# Altium integrated library Capacitor - Aluminium Polymer.IntLib: 273 symbols (part 4 of 4)
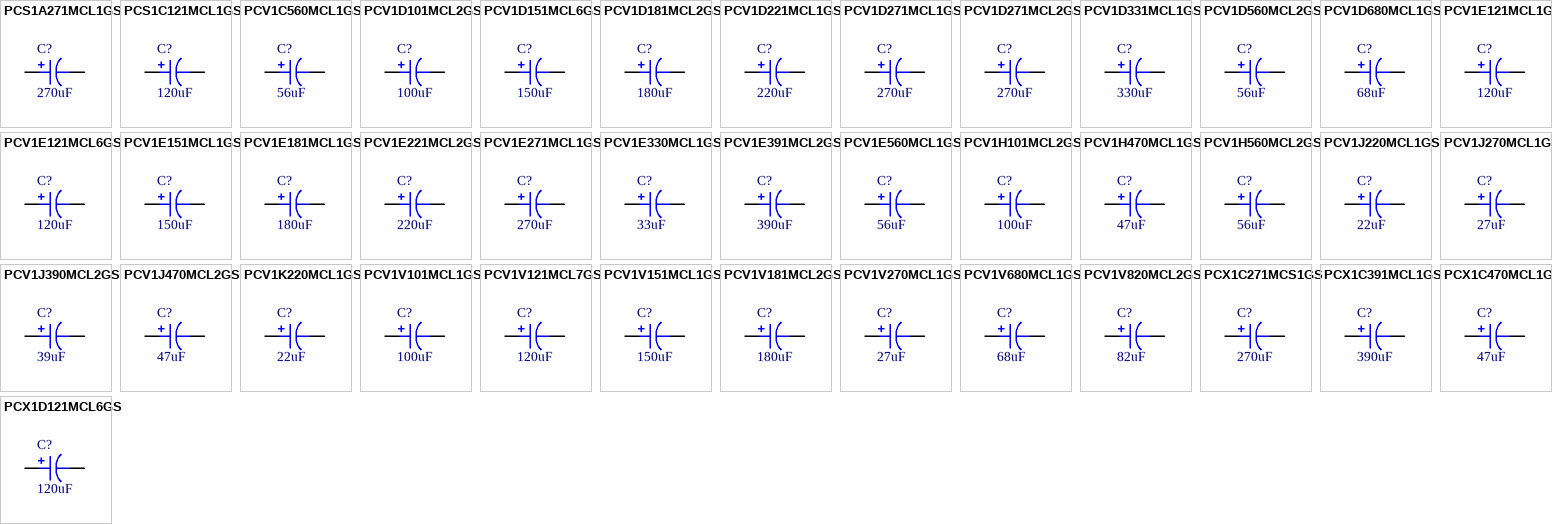
[diagram p9: symbols PCS1A271MCL1GS to PCX1D121MCL6GS]

## PCV1D181MCL2GS
designator C?, comment 180uF
CAP POLYMER 180UF 20% 20V SMD; Part Number: PCV1D181MCL2GS; Manufacturer: Nichicon; TemperatureRange: -55C ~ 105C; Ripple Current: 3.1A; Lifetime @ Temp: 3000 Hrs @ 105C; Value: 180uF; PartId: 7744; Supplier 1: Digi-Key; Supplier Part Number 1: 493-4533-2-ND; ComponentLink1Description: Datasheet; ComponentLink1URL: http://nichicon-us.com/english/products/pdfs/e-cv.pdf; ComponentLink2Description: Digi-Key listing; ComponentLink2URL: http://digikey.com/product-detail/en/PCV1D181MCL2GS/493-4533-2-ND/2786759; Tolerance: 20%; Voltage: 20V; Price: 2.2811; Type: -; Device Package: Radial, Can - SMD; Impedance: -
footprint CAP ALUM 10.3MM
pins: 1, 2

## PCV1D221MCL1GS
designator C?, comment 220uF
CAP POLYMER 220UF 20% 20V SMD; Part Number: PCV1D221MCL1GS; Manufacturer: Nichicon; TemperatureRange: -55C ~ 105C; Ripple Current: 2.3A; Lifetime @ Temp: 3000 Hrs @ 105C; Value: 220uF; PartId: 7643; Supplier 1: Digi-Key; Supplier Part Number 1: 493-4372-2-ND; ComponentLink1Description: Datasheet; ComponentLink1URL: http://nichicon-us.com/english/products/pdfs/e-cv.pdf; ComponentLink2Description: Digi-Key listing; ComponentLink2URL: http://digikey.com/product-detail/en/PCV1D221MCL1GS/493-4372-2-ND/2618758; Tolerance: 20%; Voltage: 20V; Price: 1.8816; Type: -; Device Package: Radial, Can - SMD; Impedance: -
footprint CAP ALUM 8.3MM
pins: 1, 2

## PCV1D271MCL1GS
designator C?, comment 270uF
CAP POLYMER 270UF 20% 20V SMD; Part Number: PCV1D271MCL1GS; Manufacturer: Nichicon; TemperatureRange: -55C ~ 105C; Ripple Current: 2.3A; Lifetime @ Temp: 3000 Hrs @ 105C; Value: 270uF; PartId: 7741; Supplier 1: Digi-Key; Supplier Part Number 1: 493-4374-2-ND; ComponentLink1Description: Datasheet; ComponentLink1URL: http://nichicon-us.com/english/products/pdfs/e-cv.pdf; ComponentLink2Description: Digi-Key listing; ComponentLink2URL: http://digikey.com/product-detail/en/PCV1D271MCL1GS/493-4374-2-ND/2618760; Tolerance: 20%; Voltage: 20V; Price: 2.1207; Type: -; Device Package: Radial, Can - SMD; Impedance: -
footprint CAP ALUM 10.3MM
pins: 1, 2

## PCV1D271MCL2GS
designator C?, comment 270uF
CAP POLYMER 270UF 20% 20V SMD; Part Number: PCV1D271MCL2GS; Manufacturer: Nichicon; TemperatureRange: -55C ~ 105C; Ripple Current: 4A; Lifetime @ Temp: 3000 Hrs @ 105C; Value: 270uF; PartId: 7649; Supplier 1: Digi-Key; Supplier Part Number 1: 493-4535-2-ND; ComponentLink1Description: Datasheet; ComponentLink1URL: http://nichicon-us.com/english/products/pdfs/e-cv.pdf; ComponentLink2Description: Digi-Key listing; ComponentLink2URL: http://digikey.com/product-detail/en/PCV1D271MCL2GS/493-4535-2-ND/2786761; Tolerance: 20%; Voltage: 20V; Price: 2.4592; Type: -; Device Package: Radial, Can - SMD; Impedance: -
footprint CAP ALUM 8.3MM
pins: 1, 2

## PCV1D331MCL1GS
designator C?, comment 330uF
CAP POLYMER 330UF 20% 20V SMD; Part Number: PCV1D331MCL1GS; Manufacturer: Nichicon; TemperatureRange: -55C ~ 105C; Ripple Current: 2.7A; Lifetime @ Temp: 3000 Hrs @ 105C; Value: 330uF; PartId: 7750; Supplier 1: Digi-Key; Supplier Part Number 1: 493-4375-2-ND; ComponentLink1Description: Datasheet; ComponentLink1URL: http://nichicon-us.com/english/products/pdfs/e-cv.pdf; ComponentLink2Description: Digi-Key listing; ComponentLink2URL: http://digikey.com/product-detail/en/PCV1D331MCL1GS/493-4375-2-ND/2618761; Tolerance: 20%; Voltage: 20V; Price: 2.5418; Type: -; Device Package: Radial, Can - SMD; Impedance: -
footprint CAP ALUM 10.3MM
pins: 1, 2

## PCV1D560MCL2GS
designator C?, comment 56uF
CAP POLYMER 56UF 20% 20V SMD; Part Number: PCV1D560MCL2GS; Manufacturer: Nichicon; TemperatureRange: -55C ~ 105C; Ripple Current: 1.3A; Lifetime @ Temp: 3000 Hrs @ 105C; Value: 56uF; PartId: 7542; Supplier 1: Digi-Key; Supplier Part Number 1: 493-4531-2-ND; ComponentLink1Description: Datasheet; ComponentLink1URL: http://nichicon-us.com/english/products/pdfs/e-cv.pdf; ComponentLink2Description: Digi-Key listing; ComponentLink2URL: http://digikey.com/product-detail/en/PCV1D560MCL2GS/493-4531-2-ND/2786757; Tolerance: 20%; Voltage: 20V; Price: 0.8778; Type: -; Device Package: Radial, Can - SMD; Impedance: -
footprint CAP ALUM 6.6MM
pins: 1, 2

## PCV1D680MCL1GS
designator C?, comment 68uF
CAP POLYMER 68UF 20% 20V SMD; Part Number: PCV1D680MCL1GS; Manufacturer: Nichicon; TemperatureRange: -55C ~ 105C; Ripple Current: 1.3A; Lifetime @ Temp: 3000 Hrs @ 105C; Value: 68uF; PartId: 7605; Supplier 1: Digi-Key; Supplier Part Number 1: 493-4370-2-ND; ComponentLink1Description: Datasheet; ComponentLink1URL: http://nichicon-us.com/english/products/pdfs/e-cv.pdf; ComponentLink2Description: Digi-Key listing; ComponentLink2URL: http://digikey.com/product-detail/en/PCV1D680MCL1GS/493-4370-2-ND/2618756; Tolerance: 20%; Voltage: 20V; Price: 1.0585; Type: -; Device Package: Radial, Can - SMD; Impedance: -
footprint CAP ALUM 8.3MM
pins: 1, 2

## PCV1E121MCL1GS
designator C?, comment 120uF
CAP POLYMER 120UF 20% 25V SMD; Part Number: PCV1E121MCL1GS; Manufacturer: Nichicon; TemperatureRange: -55C ~ 105C; Ripple Current: 1.8A; Lifetime @ Temp: 3000 Hrs @ 105C; Value: 120uF; PartId: 7717; Supplier 1: Digi-Key; Supplier Part Number 1: 493-4380-2-ND; ComponentLink1Description: Datasheet; ComponentLink1URL: http://nichicon-us.com/english/products/pdfs/e-cv.pdf; ComponentLink2Description: Digi-Key listing; ComponentLink2URL: http://digikey.com/product-detail/en/PCV1E121MCL1GS/493-4380-2-ND/2618766; Tolerance: 20%; Voltage: 25V; Price: 1.662; Type: -; Device Package: Radial, Can - SMD; Impedance: -
footprint CAP ALUM 10.3MM
pins: 1, 2

## PCV1E121MCL6GS
designator C?, comment 120uF
CAP POLYMER 120UF 20% 25V SMD; Part Number: PCV1E121MCL6GS; Manufacturer: Nichicon; TemperatureRange: -55C ~ 105C; Ripple Current: 1.9A; Lifetime @ Temp: 3000 Hrs @ 105C; Value: 120uF; PartId: 7636; Supplier 1: Digi-Key; Supplier Part Number 1: 493-4378-2-ND; ComponentLink1Description: Datasheet; ComponentLink1URL: http://nichicon-us.com/english/products/pdfs/e-cv.pdf; ComponentLink2Description: Digi-Key listing; ComponentLink2URL: http://digikey.com/product-detail/en/PCV1E121MCL6GS/493-4378-2-ND/2618764; Tolerance: 20%; Voltage: 25V; Price: 1.651; Type: -; Device Package: Radial, Can - SMD; Impedance: -
footprint CAP ALUM 8.3MM
pins: 1, 2

## PCV1E151MCL1GS
designator C?, comment 150uF
CAP POLYMER 150UF 20% 25V SMD; Part Number: PCV1E151MCL1GS; Manufacturer: Nichicon; TemperatureRange: -55C ~ 105C; Ripple Current: 2.2A; Lifetime @ Temp: 3000 Hrs @ 105C; Value: 150uF; PartId: 7640; Supplier 1: Digi-Key; Supplier Part Number 1: 493-4379-2-ND; ComponentLink1Description: Datasheet; ComponentLink1URL: http://nichicon-us.com/english/products/pdfs/e-cv.pdf; ComponentLink2Description: Digi-Key listing; ComponentLink2URL: http://digikey.com/product-detail/en/PCV1E151MCL1GS/493-4379-2-ND/2618765; Tolerance: 20%; Voltage: 25V; Price: 1.7099; Type: -; Device Package: Radial, Can - SMD; Impedance: -
footprint CAP ALUM 8.3MM
pins: 1, 2

## PCV1E181MCL1GS
designator C?, comment 180uF
CAP POLYMER 180UF 20% 25V SMD; Part Number: PCV1E181MCL1GS; Manufacturer: Nichicon; TemperatureRange: -55C ~ 105C; Ripple Current: 2.3A; Lifetime @ Temp: 3000 Hrs @ 105C; Value: 180uF; PartId: 7738; Supplier 1: Digi-Key; Supplier Part Number 1: 493-4381-2-ND; ComponentLink1Description: Datasheet; ComponentLink1URL: http://nichicon-us.com/english/products/pdfs/e-cv.pdf; ComponentLink2Description: Digi-Key listing; ComponentLink2URL: http://digikey.com/product-detail/en/PCV1E181MCL1GS/493-4381-2-ND/2618767; Tolerance: 20%; Voltage: 25V; Price: 1.91; Type: -; Device Package: Radial, Can - SMD; Impedance: -
footprint CAP ALUM 10.3MM
pins: 1, 2

## PCV1E221MCL2GS
designator C?, comment 220uF
CAP POLYMER 220UF 20% 25V SMD; Part Number: PCV1E221MCL2GS; Manufacturer: Nichicon; TemperatureRange: -55C ~ 105C; Ripple Current: 3.8A; Lifetime @ Temp: 3000 Hrs @ 105C; Value: 220uF; PartId: 7647; Supplier 1: Digi-Key; Supplier Part Number 1: 493-4542-2-ND; ComponentLink1Description: Datasheet; ComponentLink1URL: http://nichicon-us.com/english/products/pdfs/e-cv.pdf; ComponentLink2Description: Digi-Key listing; ComponentLink2URL: http://digikey.com/product-detail/en/PCV1E221MCL2GS/493-4542-2-ND/2786768; Tolerance: 20%; Voltage: 25V; Price: 2.406; Type: -; Device Package: Radial, Can - SMD; Impedance: -
footprint CAP ALUM 8.3MM
pins: 1, 2

## PCV1E271MCL1GS
designator C?, comment 270uF
CAP POLYMER 270UF 20% 25V SMD; Part Number: PCV1E271MCL1GS; Manufacturer: Nichicon; TemperatureRange: -55C ~ 105C; Ripple Current: 2.7A; Lifetime @ Temp: 3000 Hrs @ 105C; Value: 270uF; PartId: 7749; Supplier 1: Digi-Key; Supplier Part Number 1: 493-4382-2-ND; ComponentLink1Description: Datasheet; ComponentLink1URL: http://nichicon-us.com/english/products/pdfs/e-cv.pdf; ComponentLink2Description: Digi-Key listing; ComponentLink2URL: http://digikey.com/product-detail/en/PCV1E271MCL1GS/493-4382-2-ND/2618768; Tolerance: 20%; Voltage: 25V; Price: 2.5; Type: -; Device Package: Radial, Can - SMD; Impedance: -
footprint CAP ALUM 10.3MM
pins: 1, 2

## PCV1E330MCL1GS
designator C?, comment 33uF
CAP POLYMER 33UF 20% 25V SMD; Part Number: PCV1E330MCL1GS; Manufacturer: Nichicon; TemperatureRange: -55C ~ 105C; Ripple Current: 900mA; Lifetime @ Temp: 3000 Hrs @ 105C; Value: 33uF; PartId: 7526; Supplier 1: Digi-Key; Supplier Part Number 1: 493-4376-2-ND; ComponentLink1Description: Datasheet; ComponentLink1URL: http://nichicon-us.com/english/products/pdfs/e-cv.pdf; ComponentLink2Description: Digi-Key listing; ComponentLink2URL: http://digikey.com/product-detail/en/PCV1E330MCL1GS/493-4376-2-ND/2618762; Tolerance: 20%; Voltage: 25V; Price: 0.642; Type: -; Device Package: Radial, Can - SMD; Impedance: -
footprint CAP ALUM 6.6MM
pins: 1, 2

## PCV1E391MCL2GS
designator C?, comment 390uF
CAP POLYMER 390UF 20% 25V SMD; Part Number: PCV1E391MCL2GS; Manufacturer: Nichicon; TemperatureRange: -55C ~ 105C; Ripple Current: 4.2A; Lifetime @ Temp: 3000 Hrs @ 105C; Value: 390uF; PartId: 7755; Supplier 1: Digi-Key; Supplier Part Number 1: 493-4544-2-ND; ComponentLink1Description: Datasheet; ComponentLink1URL: http://nichicon-us.com/english/products/pdfs/e-cv.pdf; ComponentLink2Description: Digi-Key listing; ComponentLink2URL: http://digikey.com/product-detail/en/PCV1E391MCL2GS/493-4544-2-ND/2786770; Tolerance: 20%; Voltage: 25V; Price: 3.429; Type: -; Device Package: Radial, Can - SMD; Impedance: -
footprint CAP ALUM 10.3MM
pins: 1, 2

## PCV1E560MCL1GS
designator C?, comment 56uF
CAP POLYMER 56UF 20% 25V SMD; Part Number: PCV1E560MCL1GS; Manufacturer: Nichicon; TemperatureRange: -55C ~ 105C; Ripple Current: 1.3A; Lifetime @ Temp: 3000 Hrs @ 105C; Value: 56uF; PartId: 7607; Supplier 1: Digi-Key; Supplier Part Number 1: 493-4377-2-ND; ComponentLink1Description: Datasheet; ComponentLink1URL: http://nichicon-us.com/english/products/pdfs/e-cv.pdf; ComponentLink2Description: Digi-Key listing; ComponentLink2URL: http://digikey.com/product-detail/en/PCV1E560MCL1GS/493-4377-2-ND/2618763; Tolerance: 20%; Voltage: 25V; Price: 1.065; Type: -; Device Package: Radial, Can - SMD; Impedance: -
footprint CAP ALUM 8.3MM
pins: 1, 2

## PCV1H101MCL2GS
designator C?, comment 100uF
CAP POLYMER 100UF 20% 50V SMD; Part Number: PCV1H101MCL2GS; Manufacturer: Nichicon; TemperatureRange: -55C ~ 105C; Ripple Current: 3.6A; Lifetime @ Temp: 3000 Hrs @ 105C; Value: 100uF; PartId: 7753; Supplier 1: Digi-Key; Supplier Part Number 1: 493-4558-2-ND; ComponentLink1Description: Datasheet; ComponentLink1URL: http://nichicon-us.com/english/products/pdfs/e-cv.pdf; ComponentLink2Description: Digi-Key listing; ComponentLink2URL: http://digikey.com/product-detail/en/PCV1H101MCL2GS/493-4558-2-ND/2786784; Tolerance: 20%; Voltage: 50V; Price: 3.2666; Type: -; Device Package: Radial, Can - SMD; Impedance: -
footprint CAP ALUM 10.3MM
pins: 1, 2

## PCV1H470MCL1GS
designator C?, comment 47uF
CAP POLYMER 47UF 20% 50V SMD; Part Number: PCV1H470MCL1GS; Manufacturer: Nichicon; TemperatureRange: -55C ~ 105C; Ripple Current: 2.2A; Lifetime @ Temp: 3000 Hrs @ 105C; Value: 47uF; PartId: 7728; Supplier 1: Digi-Key; Supplier Part Number 1: 493-4395-2-ND; ComponentLink1Description: Datasheet; ComponentLink1URL: http://nichicon-us.com/english/products/pdfs/e-cv.pdf; ComponentLink2Description: Digi-Key listing; ComponentLink2URL: http://digikey.com/product-detail/en/PCV1H470MCL1GS/493-4395-2-ND/2618781; Tolerance: 20%; Voltage: 50V; Price: 1.8098; Type: -; Device Package: Radial, Can - SMD; Impedance: -
footprint CAP ALUM 10.3MM
pins: 1, 2

## PCV1H560MCL2GS
designator C?, comment 56uF
CAP POLYMER 56UF 20% 50V SMD; Part Number: PCV1H560MCL2GS; Manufacturer: Nichicon; TemperatureRange: -55C ~ 105C; Ripple Current: 3.4A; Lifetime @ Temp: 3000 Hrs @ 105C; Value: 56uF; PartId: 7650; Supplier 1: Digi-Key; Supplier Part Number 1: 493-4556-2-ND; ComponentLink1Description: Datasheet; ComponentLink1URL: http://nichicon-us.com/english/products/pdfs/e-cv.pdf; ComponentLink2Description: Digi-Key listing; ComponentLink2URL: http://digikey.com/product-detail/en/PCV1H560MCL2GS/493-4556-2-ND/2786782; Tolerance: 20%; Voltage: 50V; Price: 2.4837; Type: -; Device Package: Radial, Can - SMD; Impedance: -
footprint CAP ALUM 8.3MM
pins: 1, 2

## PCV1J220MCL1GS
designator C?, comment 22uF
CAP POLYMER 22UF 20% 63V SMD; Part Number: PCV1J220MCL1GS; Manufacturer: Nichicon; TemperatureRange: -55C ~ 105C; Ripple Current: 1.4A; Lifetime @ Temp: 3000 Hrs @ 105C; Value: 22uF; PartId: 7716; Supplier 1: Digi-Key; Supplier Part Number 1: 493-4401-2-ND; ComponentLink1Description: Datasheet; ComponentLink1URL: http://nichicon-us.com/english/products/pdfs/e-cv.pdf; ComponentLink2Description: Digi-Key listing; ComponentLink2URL: http://digikey.com/product-detail/en/PCV1J220MCL1GS/493-4401-2-ND/2618787; Tolerance: 20%; Voltage: 63V; Price: 1.6246; Type: -; Device Package: Radial, Can - SMD; Impedance: -
footprint CAP ALUM 10.3MM
pins: 1, 2

## PCV1J270MCL1GS
designator C?, comment 27uF
CAP POLYMER 27UF 20% 63V SMD; Part Number: PCV1J270MCL1GS; Manufacturer: Nichicon; TemperatureRange: -55C ~ 105C; Ripple Current: 2A; Lifetime @ Temp: 3000 Hrs @ 105C; Value: 27uF; PartId: 7638; Supplier 1: Digi-Key; Supplier Part Number 1: 493-4400-2-ND; ComponentLink1Description: Datasheet; ComponentLink1URL: http://nichicon-us.com/english/products/pdfs/e-cv.pdf; ComponentLink2Description: Digi-Key listing; ComponentLink2URL: http://digikey.com/product-detail/en/PCV1J270MCL1GS/493-4400-2-ND/2618786; Tolerance: 20%; Voltage: 63V; Price: 1.6818; Type: -; Device Package: Radial, Can - SMD; Impedance: -
footprint CAP ALUM 8.3MM
pins: 1, 2

## PCV1J390MCL2GS
designator C?, comment 39uF
CAP POLYMER 39UF 20% 63V SMD; Part Number: PCV1J390MCL2GS; Manufacturer: Nichicon; TemperatureRange: -55C ~ 105C; Ripple Current: 3.4A; Lifetime @ Temp: 3000 Hrs @ 105C; Value: 39uF; PartId: 7651; Supplier 1: Digi-Key; Supplier Part Number 1: 493-4563-2-ND; ComponentLink1Description: Datasheet; ComponentLink1URL: http://nichicon-us.com/english/products/pdfs/e-cv.pdf; ComponentLink2Description: Digi-Key listing; ComponentLink2URL: http://digikey.com/product-detail/en/PCV1J390MCL2GS/493-4563-2-ND/2786789; Tolerance: 20%; Voltage: 63V; Price: 2.5415; Type: -; Device Package: Radial, Can - SMD; Impedance: -
footprint CAP ALUM 8.3MM
pins: 1, 2

## PCV1J470MCL2GS
designator C?, comment 47uF
CAP POLYMER 47UF 20% 63V SMD; Part Number: PCV1J470MCL2GS; Manufacturer: Nichicon; TemperatureRange: -55C ~ 105C; Ripple Current: 3.3A; Lifetime @ Temp: 3000 Hrs @ 105C; Value: 47uF; PartId: 7748; Supplier 1: Digi-Key; Supplier Part Number 1: 493-4564-2-ND; ComponentLink1Description: Datasheet; ComponentLink1URL: http://nichicon-us.com/english/products/pdfs/e-cv.pdf; ComponentLink2Description: Digi-Key listing; ComponentLink2URL: http://digikey.com/product-detail/en/PCV1J470MCL2GS/493-4564-2-ND/2786790; Tolerance: 20%; Voltage: 63V; Price: 2.415; Type: -; Device Package: Radial, Can - SMD; Impedance: -
footprint CAP ALUM 10.3MM
pins: 1, 2

## PCV1K220MCL1GS
designator C?, comment 22uF
CAP POLYMER 22UF 20% 80V SMD; Part Number: PCV1K220MCL1GS; Manufacturer: Nichicon; TemperatureRange: -55C ~ 105C; Ripple Current: 2.2A; Lifetime @ Temp: 3000 Hrs @ 105C; Value: 22uF; PartId: 7752; Supplier 1: Digi-Key; Supplier Part Number 1: 493-4569-2-ND; ComponentLink1Description: Datasheet; ComponentLink1URL: http://nichicon-us.com/english/products/pdfs/e-cv.pdf; ComponentLink2Description: Digi-Key listing; ComponentLink2URL: http://digikey.com/product-detail/en/PCV1K220MCL1GS/493-4569-2-ND/2786795; Tolerance: 20%; Voltage: 80V; Price: 3.2276; Type: -; Device Package: Radial, Can - SMD; Impedance: -
footprint CAP ALUM 10.3MM
pins: 1, 2

## PCV1V101MCL1GS
designator C?, comment 100uF
CAP POLYMER 100UF 20% 35V SMD; Part Number: PCV1V101MCL1GS; Manufacturer: Nichicon; TemperatureRange: -55C ~ 105C; Ripple Current: 2.2A; Lifetime @ Temp: 3000 Hrs @ 105C; Value: 100uF; PartId: 7739; Supplier 1: Digi-Key; Supplier Part Number 1: 493-4388-2-ND; ComponentLink1Description: Datasheet; ComponentLink1URL: http://nichicon-us.com/english/products/pdfs/e-cv.pdf; ComponentLink2Description: Digi-Key listing; ComponentLink2URL: http://digikey.com/product-detail/en/PCV1V101MCL1GS/493-4388-2-ND/2618774; Tolerance: 20%; Voltage: 35V; Price: 1.9316; Type: -; Device Package: Radial, Can - SMD; Impedance: -
footprint CAP ALUM 10.3MM
pins: 1, 2

## PCV1V121MCL7GS
designator C?, comment 120uF
CAP POLYMER 120UF 20% 35V SMD; Part Number: PCV1V121MCL7GS; Manufacturer: Nichicon; TemperatureRange: -55C ~ 105C; Ripple Current: 3.8A; Lifetime @ Temp: 3000 Hrs @ 105C; Value: 120uF; PartId: 7652; Supplier 1: Digi-Key; Supplier Part Number 1: 493-4549-2-ND; ComponentLink1Description: Datasheet; ComponentLink1URL: http://nichicon-us.com/english/products/pdfs/e-cv.pdf; ComponentLink2Description: Digi-Key listing; ComponentLink2URL: http://digikey.com/product-detail/en/PCV1V121MCL7GS/493-4549-2-ND/2786775; Tolerance: 20%; Voltage: 35V; Price: 2.9591; Type: -; Device Package: Radial, Can - SMD; Impedance: -
footprint CAP ALUM 8.3MM
pins: 1, 2

## PCV1V151MCL1GS
designator C?, comment 150uF
CAP POLYMER 150UF 20% 35V SMD; Part Number: PCV1V151MCL1GS; Manufacturer: Nichicon; TemperatureRange: -55C ~ 105C; Ripple Current: 2.6A; Lifetime @ Temp: 3000 Hrs @ 105C; Value: 150uF; PartId: 7746; Supplier 1: Digi-Key; Supplier Part Number 1: 493-4389-2-ND; ComponentLink1Description: Datasheet; ComponentLink1URL: http://nichicon-us.com/english/products/pdfs/e-cv.pdf; ComponentLink2Description: Digi-Key listing; ComponentLink2URL: http://digikey.com/product-detail/en/PCV1V151MCL1GS/493-4389-2-ND/2618775; Tolerance: 20%; Voltage: 35V; Price: 2.3663; Type: -; Device Package: Radial, Can - SMD; Impedance: -
footprint CAP ALUM 10.3MM
pins: 1, 2

## PCV1V181MCL2GS
designator C?, comment 180uF
CAP POLYMER 180UF 20% 35V SMD; Part Number: PCV1V181MCL2GS; Manufacturer: Nichicon; TemperatureRange: -55C ~ 105C; Ripple Current: 4.1A; Lifetime @ Temp: 3000 Hrs @ 105C; Value: 180uF; PartId: 7754; Supplier 1: Digi-Key; Supplier Part Number 1: 493-4551-2-ND; ComponentLink1Description: Datasheet; ComponentLink1URL: http://nichicon-us.com/english/products/pdfs/e-cv.pdf; ComponentLink2Description: Digi-Key listing; ComponentLink2URL: http://digikey.com/product-detail/en/PCV1V181MCL2GS/493-4551-2-ND/2786777; Tolerance: 20%; Voltage: 35V; Price: 3.3561; Type: -; Device Package: Radial, Can - SMD; Impedance: -
footprint CAP ALUM 10.3MM
pins: 1, 2

## PCV1V270MCL1GS
designator C?, comment 27uF
CAP POLYMER 27UF 20% 35V SMD; Part Number: PCV1V270MCL1GS; Manufacturer: Nichicon; TemperatureRange: -55C ~ 105C; Ripple Current: 1.2A; Lifetime @ Temp: 3000 Hrs @ 105C; Value: 27uF; PartId: 7602; Supplier 1: Digi-Key; Supplier Part Number 1: 493-4384-2-ND; ComponentLink1Description: Datasheet; ComponentLink1URL: http://nichicon-us.com/english/products/pdfs/e-cv.pdf; ComponentLink2Description: Digi-Key listing; ComponentLink2URL: http://digikey.com/product-detail/en/PCV1V270MCL1GS/493-4384-2-ND/2618770; Tolerance: 20%; Voltage: 35V; Price: 1.0241; Type: -; Device Package: Radial, Can - SMD; Impedance: -
footprint CAP ALUM 8.3MM
pins: 1, 2

## PCV1V680MCL1GS
designator C?, comment 68uF
CAP POLYMER 68UF 20% 35V SMD; Part Number: PCV1V680MCL1GS; Manufacturer: Nichicon; TemperatureRange: -55C ~ 105C; Ripple Current: 1.8A; Lifetime @ Temp: 3000 Hrs @ 105C; Value: 68uF; PartId: 7719; Supplier 1: Digi-Key; Supplier Part Number 1: 493-4387-2-ND; ComponentLink1Description: Datasheet; ComponentLink1URL: http://nichicon-us.com/english/products/pdfs/e-cv.pdf; ComponentLink2Description: Digi-Key listing; ComponentLink2URL: http://digikey.com/product-detail/en/PCV1V680MCL1GS/493-4387-2-ND/2618773; Tolerance: 20%; Voltage: 35V; Price: 1.6893; Type: -; Device Package: Radial, Can - SMD; Impedance: -
footprint CAP ALUM 10.3MM
pins: 1, 2

## PCV1V820MCL2GS
designator C?, comment 82uF
CAP POLYMER 82UF 20% 35V SMD; Part Number: PCV1V820MCL2GS; Manufacturer: Nichicon; TemperatureRange: -55C ~ 105C; Ripple Current: 3A; Lifetime @ Temp: 3000 Hrs @ 105C; Value: 82uF; PartId: 7743; Supplier 1: Digi-Key; Supplier Part Number 1: 493-4548-2-ND; ComponentLink1Description: Datasheet; ComponentLink1URL: http://nichicon-us.com/english/products/pdfs/e-cv.pdf; ComponentLink2Description: Digi-Key listing; ComponentLink2URL: http://digikey.com/product-detail/en/PCV1V820MCL2GS/493-4548-2-ND/2786774; Tolerance: 20%; Voltage: 35V; Price: 2.2752; Type: -; Device Package: Radial, Can - SMD; Impedance: -
footprint CAP ALUM 10.3MM
pins: 1, 2

## PCX1C271MCS1GS
designator C?, comment 270uF
CAP POLYMER 270UF 20% 16V SMD; Part Number: PCX1C271MCS1GS; Manufacturer: Nichicon; TemperatureRange: -55C ~ 125C; Type: General Purpose; Ripple Current: 2.3A; Lifetime @ Temp: 3000 Hrs @ 125C; Value: 270uF; PartId: 7737; Supplier 1: Digi-Key; Supplier Part Number 1: 493-13690-2-ND; ComponentLink1Description: Datasheet; ComponentLink1URL: http://nichicon-us.com/english/products/pdfs/e-p_cx.pdf; ComponentLink2Description: Digi-Key listing; ComponentLink2URL: http://digikey.com/product-detail/en/PCX1C271MCS1GS/493-13690-2-ND/4694798; Tolerance: 20%; Voltage: 16V; Price: 1.8848; Device Package: Radial, Can - SMD; Impedance: -
footprint CAP ALUM 10.3MM
pins: 1, 2

## PCX1C391MCL1GS
designator C?, comment 390uF
CAP POLYMER 390UF 20% 16V SMD; Part Number: PCX1C391MCL1GS; Manufacturer: Nichicon; TemperatureRange: -55C ~ 125C; Ripple Current: 1.04A; Lifetime @ Temp: 3000 Hrs @ 125C; Value: 390uF; PartId: 7745; Supplier 1: Digi-Key; Supplier Part Number 1: 493-4705-2-ND; ComponentLink1Description: Datasheet; ComponentLink1URL: http://nichicon-us.com/english/products/pdfs/e-p_cx.pdf; ComponentLink2Description: Digi-Key listing; ComponentLink2URL: http://digikey.com/product-detail/en/PCX1C391MCL1GS/493-4705-2-ND/2791302; Tolerance: 20%; Voltage: 16V; Price: 2.3181; Type: -; Device Package: Radial, Can - SMD; Impedance: -
footprint CAP ALUM 10.3MM
pins: 1, 2

## PCX1C470MCL1GS
designator C?, comment 47uF
CAP POLYMER 47UF 20% 16V SMD; Part Number: PCX1C470MCL1GS; Manufacturer: Nichicon; TemperatureRange: -55C ~ 125C; Ripple Current: 390mA; Lifetime @ Temp: 1500 Hrs @ 125C; Value: 47uF; PartId: 7508; Supplier 1: Digi-Key; Supplier Part Number 1: 493-4674-2-ND; ComponentLink1Description: Datasheet; ComponentLink1URL: http://nichicon-us.com/english/products/pdfs/e-p_cx.pdf; ComponentLink2Description: Digi-Key listing; ComponentLink2URL: http://digikey.com/product-detail/en/PCX1C470MCL1GS/493-4674-2-ND/2787113; Tolerance: 20%; Voltage: 16V; Price: 0.5981; Type: -; Device Package: Radial, Can - SMD; Impedance: -
footprint CAP ALUM 6.6MM
pins: 1, 2

## PCX1D121MCL6GS
designator C?, comment 120uF
CAP POLYMER 120UF 20% 20V SMD; Part Number: PCX1D121MCL6GS; Manufacturer: Nichicon; TemperatureRange: -55C ~ 125C; Ripple Current: 770mA; Lifetime @ Temp: 3000 Hrs @ 125C; Value: 120uF; PartId: 7620; Supplier 1: Digi-Key; Supplier Part Number 1: 493-4709-2-ND; ComponentLink1Description: Datasheet; ComponentLink1URL: http://nichicon-us.com/english/products/pdfs/e-p_cx.pdf; ComponentLink2Description: Digi-Key listing; ComponentLink2URL: http://digikey.com/product-detail/en/PCX1D121MCL6GS/493-4709-2-ND/2791305; Tolerance: 20%; Voltage: 20V; Price: 1.3363; Type: -; Device Package: Radial, Can - SMD; Impedance: -
footprint CAP ALUM 8.3MM
pins: 1, 2

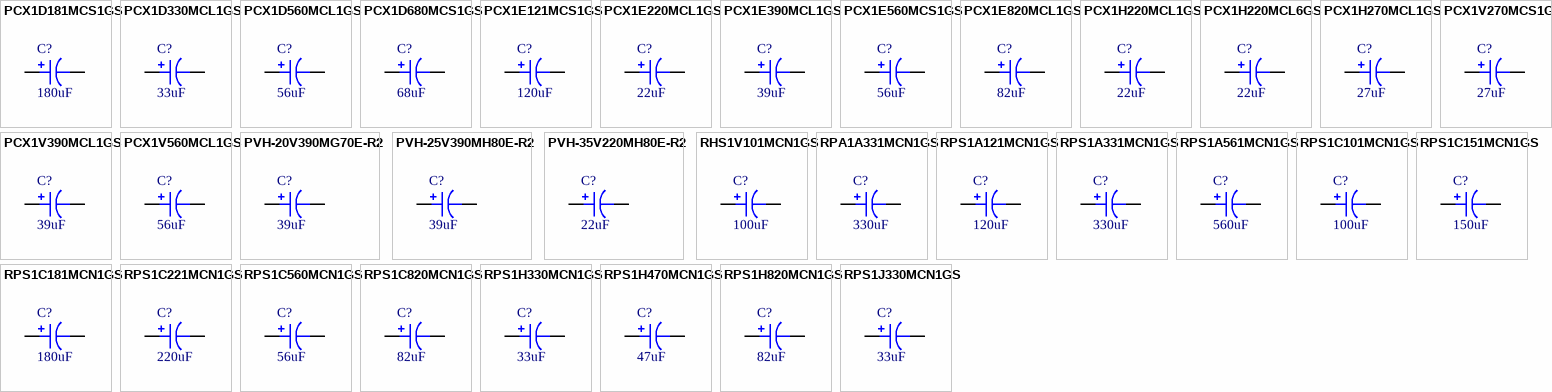
[diagram p6: symbols PCX1D181MCS1GS to RPS1J330MCN1GS]

## PCX1D181MCS1GS
designator C?, comment 180uF
CAP POLYMER 180UF 20% 20V SMD; Part Number: PCX1D181MCS1GS; Manufacturer: Nichicon; TemperatureRange: -55C ~ 125C; Type: General Purpose; Ripple Current: 2.3A; Lifetime @ Temp: 3000 Hrs @ 125C; Value: 180uF; PartId: 7742; Supplier 1: Digi-Key; Supplier Part Number 1: 493-13695-2-ND; ComponentLink1Description: Datasheet; ComponentLink1URL: http://nichicon-us.com/english/products/pdfs/e-p_cx.pdf; ComponentLink2Description: Digi-Key listing; ComponentLink2URL: http://digikey.com/product-detail/en/PCX1D181MCS1GS/493-13695-2-ND/4694807; Tolerance: 20%; Voltage: 20V; Price: 2.2497; Device Package: Radial, Can - SMD; Impedance: -
footprint CAP ALUM 10.3MM
pins: 1, 2

## PCX1D330MCL1GS
designator C?, comment 33uF
CAP POLYMER 33UF 20% 20V SMD; Part Number: PCX1D330MCL1GS; Manufacturer: Nichicon; TemperatureRange: -55C ~ 125C; Ripple Current: 380mA; Lifetime @ Temp: 1500 Hrs @ 125C; Value: 33uF; PartId: 7525; Supplier 1: Digi-Key; Supplier Part Number 1: 493-4718-2-ND; ComponentLink1Description: Datasheet; ComponentLink1URL: http://nichicon-us.com/english/products/pdfs/e-p_cx.pdf; ComponentLink2Description: Digi-Key listing; ComponentLink2URL: http://digikey.com/product-detail/en/PCX1D330MCL1GS/493-4718-2-ND/2791303; Tolerance: 20%; Voltage: 20V; Price: 0.6306; Type: -; Device Package: Radial, Can - SMD; Impedance: -
footprint CAP ALUM 6.6MM
pins: 1, 2

## PCX1D560MCL1GS
designator C?, comment 56uF
CAP POLYMER 56UF 20% 20V SMD; Part Number: PCX1D560MCL1GS; Manufacturer: Nichicon; TemperatureRange: -55C ~ 125C; Ripple Current: 500mA; Lifetime @ Temp: 3000 Hrs @ 125C; Value: 56uF; PartId: 7601; Supplier 1: Digi-Key; Supplier Part Number 1: 493-4719-2-ND; ComponentLink1Description: Datasheet; ComponentLink1URL: http://nichicon-us.com/english/products/pdfs/e-p_cx.pdf; ComponentLink2Description: Digi-Key listing; ComponentLink2URL: http://digikey.com/product-detail/en/PCX1D560MCL1GS/493-4719-2-ND/2791304; Tolerance: 20%; Voltage: 20V; Price: 1.0237; Type: -; Device Package: Radial, Can - SMD; Impedance: -
footprint CAP ALUM 8.3MM
pins: 1, 2

## PCX1D680MCS1GS
designator C?, comment 68uF
CAP POLYMER 68UF 20% 20V SMD; Part Number: PCX1D680MCS1GS; Manufacturer: Nichicon; TemperatureRange: -55C ~ 125C; Type: General Purpose; Ripple Current: 1.45A; Lifetime @ Temp: 1500 Hrs @ 125C; Value: 68uF; PartId: 7547; Supplier 1: Digi-Key; Supplier Part Number 1: 493-13693-2-ND; ComponentLink1Description: Datasheet; ComponentLink1URL: http://nichicon-us.com/english/products/pdfs/e-p_cx.pdf; ComponentLink2Description: Digi-Key listing; ComponentLink2URL: http://digikey.com/product-detail/en/PCX1D680MCS1GS/493-13693-2-ND/4694816; Tolerance: 20%; Voltage: 20V; Price: 0.9398; Device Package: Radial, Can - SMD; Impedance: -
footprint CAP ALUM 6.6MM
pins: 1, 2

## PCX1E121MCS1GS
designator C?, comment 120uF
CAP POLYMER 120UF 20% 25V SMD; Part Number: PCX1E121MCS1GS; Manufacturer: Nichicon; TemperatureRange: -55C ~ 125C; Type: General Purpose; Ripple Current: 2.2A; Lifetime @ Temp: 3000 Hrs @ 125C; Value: 120uF; PartId: 7747; Supplier 1: Digi-Key; Supplier Part Number 1: 493-13700-2-ND; ComponentLink1Description: Datasheet; ComponentLink1URL: http://nichicon-us.com/english/products/pdfs/e-p_cx.pdf; ComponentLink2Description: Digi-Key listing; ComponentLink2URL: http://digikey.com/product-detail/en/PCX1E121MCS1GS/493-13700-2-ND/4694819; Tolerance: 20%; Voltage: 25V; Price: 2.395; Device Package: Radial, Can - SMD; Impedance: -
footprint CAP ALUM 10.3MM
pins: 1, 2

## PCX1E220MCL1GS
designator C?, comment 22uF
CAP POLYMER 22UF 20% 25V SMD; Part Number: PCX1E220MCL1GS; Manufacturer: Nichicon; TemperatureRange: -55C ~ 125C; Ripple Current: 360mA; Lifetime @ Temp: 1500 Hrs @ 125C; Value: 22uF; PartId: 7528; Supplier 1: Digi-Key; Supplier Part Number 1: 493-4716-2-ND; ComponentLink1Description: Datasheet; ComponentLink1URL: http://nichicon-us.com/english/products/pdfs/e-p_cx.pdf; ComponentLink2Description: Digi-Key listing; ComponentLink2URL: http://digikey.com/product-detail/en/PCX1E220MCL1GS/493-4716-2-ND/2791310; Tolerance: 20%; Voltage: 25V; Price: 0.648; Type: -; Device Package: Radial, Can - SMD; Impedance: -
footprint CAP ALUM 6.6MM
pins: 1, 2

## PCX1E390MCL1GS
designator C?, comment 39uF
CAP POLYMER 39UF 20% 25V SMD; Part Number: PCX1E390MCL1GS; Manufacturer: Nichicon; TemperatureRange: -55C ~ 125C; Ripple Current: 480mA; Lifetime @ Temp: 3000 Hrs @ 125C; Value: 39uF; PartId: 7606; Supplier 1: Digi-Key; Supplier Part Number 1: 493-4717-2-ND; ComponentLink1Description: Datasheet; ComponentLink1URL: http://nichicon-us.com/english/products/pdfs/e-p_cx.pdf; ComponentLink2Description: Digi-Key listing; ComponentLink2URL: http://digikey.com/product-detail/en/PCX1E390MCL1GS/493-4717-2-ND/2791311; Tolerance: 20%; Voltage: 25V; Price: 1.0613; Type: -; Device Package: Radial, Can - SMD; Impedance: -
footprint CAP ALUM 8.3MM
pins: 1, 2

## PCX1E560MCS1GS
designator C?, comment 56uF
CAP POLYMER 56UF 20% 25V SMD; Part Number: PCX1E560MCS1GS; Manufacturer: Nichicon; TemperatureRange: -55C ~ 125C; Type: General Purpose; Ripple Current: 1.4A; Lifetime @ Temp: 1500 Hrs @ 125C; Value: 56uF; PartId: 7548; Supplier 1: Digi-Key; Supplier Part Number 1: 493-13698-2-ND; ComponentLink1Description: Datasheet; ComponentLink1URL: http://nichicon-us.com/english/products/pdfs/e-p_cx.pdf; ComponentLink2Description: Digi-Key listing; ComponentLink2URL: http://digikey.com/product-detail/en/PCX1E560MCS1GS/493-13698-2-ND/4694828; Tolerance: 20%; Voltage: 25V; Price: 1.001; Device Package: Radial, Can - SMD; Impedance: -
footprint CAP ALUM 6.6MM
pins: 1, 2

## PCX1E820MCL1GS
designator C?, comment 82uF
CAP POLYMER 82UF 20% 25V SMD; Part Number: PCX1E820MCL1GS; Manufacturer: Nichicon; TemperatureRange: -55C ~ 125C; Ripple Current: 800mA; Lifetime @ Temp: 3000 Hrs @ 125C; Value: 82uF; PartId: 7721; Supplier 1: Digi-Key; Supplier Part Number 1: 493-4710-2-ND; ComponentLink1Description: Datasheet; ComponentLink1URL: http://nichicon-us.com/english/products/pdfs/e-p_cx.pdf; ComponentLink2Description: Digi-Key listing; ComponentLink2URL: http://digikey.com/product-detail/en/PCX1E820MCL1GS/493-4710-2-ND/2791313; Tolerance: 20%; Voltage: 25V; Price: 1.7216; Type: -; Device Package: Radial, Can - SMD; Impedance: -
footprint CAP ALUM 10.3MM
pins: 1, 2

## PCX1H220MCL1GS
designator C?, comment 22uF
CAP POLYMER 22UF 20% 50V SMD; Part Number: PCX1H220MCL1GS; Manufacturer: Nichicon; TemperatureRange: -55C ~ 125C; Ripple Current: 730mA; Lifetime @ Temp: 3000 Hrs @ 125C; Value: 22uF; PartId: 7733; Supplier 1: Digi-Key; Supplier Part Number 1: 493-4699-2-ND; ComponentLink1Description: Datasheet; ComponentLink1URL: http://nichicon-us.com/english/products/pdfs/e-p_cx.pdf; ComponentLink2Description: Digi-Key listing; ComponentLink2URL: http://digikey.com/product-detail/en/PCX1H220MCL1GS/493-4699-2-ND/2791250; Tolerance: 20%; Voltage: 50V; Price: 1.8621; Type: -; Device Package: Radial, Can - SMD; Impedance: -
footprint CAP ALUM 10.3MM
pins: 1, 2

## PCX1H220MCL6GS
designator C?, comment 22uF
CAP POLYMER 22UF 20% 50V SMD; Part Number: PCX1H220MCL6GS; Manufacturer: Nichicon; TemperatureRange: -55C ~ 125C; Ripple Current: 680mA; Lifetime @ Temp: 3000 Hrs @ 125C; Value: 22uF; PartId: 7635; Supplier 1: Digi-Key; Supplier Part Number 1: 493-4695-2-ND; ComponentLink1Description: Datasheet; ComponentLink1URL: http://nichicon-us.com/english/products/pdfs/e-p_cx.pdf; ComponentLink2Description: Digi-Key listing; ComponentLink2URL: http://digikey.com/product-detail/en/PCX1H220MCL6GS/493-4695-2-ND/2791249; Tolerance: 20%; Voltage: 50V; Price: 1.6319; Type: -; Device Package: Radial, Can - SMD; Impedance: -
footprint CAP ALUM 8.3MM
pins: 1, 2

## PCX1H270MCL1GS
designator C?, comment 27uF
CAP POLYMER 27UF 20% 50V SMD; Part Number: PCX1H270MCL1GS; Manufacturer: Nichicon; TemperatureRange: -55C ~ 125C; Ripple Current: 760mA; Lifetime @ Temp: 3000 Hrs @ 125C; Value: 27uF; PartId: 7648; Supplier 1: Digi-Key; Supplier Part Number 1: 493-4694-2-ND; ComponentLink1Description: Datasheet; ComponentLink1URL: http://nichicon-us.com/english/products/pdfs/e-p_cx.pdf; ComponentLink2Description: Digi-Key listing; ComponentLink2URL: http://digikey.com/product-detail/en/PCX1H270MCL1GS/493-4694-2-ND/2791251; Tolerance: 20%; Voltage: 50V; Price: 2.4284; Type: -; Device Package: Radial, Can - SMD; Impedance: -
footprint CAP ALUM 8.3MM
pins: 1, 2

## PCX1V270MCS1GS
designator C?, comment 27uF
CAP POLYMER 27UF 20% 35V SMD; Part Number: PCX1V270MCS1GS; Manufacturer: Nichicon; TemperatureRange: -55C ~ 125C; Type: General Purpose; Ripple Current: 1.3A; Lifetime @ Temp: 1500 Hrs @ 125C; Value: 27uF; PartId: 7553; Supplier 1: Digi-Key; Supplier Part Number 1: 493-13703-2-ND; ComponentLink1Description: Datasheet; ComponentLink1URL: http://nichicon-us.com/english/products/pdfs/e-p_cx.pdf; ComponentLink2Description: Digi-Key listing; ComponentLink2URL: http://digikey.com/product-detail/en/PCX1V270MCS1GS/493-13703-2-ND/4694858; Tolerance: 20%; Voltage: 35V; Price: 1.1075; Device Package: Radial, Can - SMD; Impedance: -
footprint CAP ALUM 6.6MM
pins: 1, 2

## PCX1V390MCL1GS
designator C?, comment 39uF
CAP POLYMER 39UF 20% 35V SMD; Part Number: PCX1V390MCL1GS; Manufacturer: Nichicon; TemperatureRange: -55C ~ 125C; Ripple Current: 750mA; Lifetime @ Temp: 3000 Hrs @ 125C; Value: 39uF; PartId: 7729; Supplier 1: Digi-Key; Supplier Part Number 1: 493-4700-2-ND; ComponentLink1Description: Datasheet; ComponentLink1URL: http://nichicon-us.com/english/products/pdfs/e-p_cx.pdf; ComponentLink2Description: Digi-Key listing; ComponentLink2URL: http://digikey.com/product-detail/en/PCX1V390MCL1GS/493-4700-2-ND/2791243; Tolerance: 20%; Voltage: 35V; Price: 1.8391; Type: -; Device Package: Radial, Can - SMD; Impedance: -
footprint CAP ALUM 10.3MM
pins: 1, 2

## PCX1V560MCL1GS
designator C?, comment 56uF
CAP POLYMER 56UF 20% 35V SMD; Part Number: PCX1V560MCL1GS; Manufacturer: Nichicon; TemperatureRange: -55C ~ 125C; Ripple Current: 780mA; Lifetime @ Temp: 3000 Hrs @ 125C; Value: 56uF; PartId: 7646; Supplier 1: Digi-Key; Supplier Part Number 1: 493-4693-2-ND; ComponentLink1Description: Datasheet; ComponentLink1URL: http://nichicon-us.com/english/products/pdfs/e-p_cx.pdf; ComponentLink2Description: Digi-Key listing; ComponentLink2URL: http://digikey.com/product-detail/en/PCX1V560MCL1GS/493-4693-2-ND/2791244; Tolerance: 20%; Voltage: 35V; Price: 2.2232; Type: -; Device Package: Radial, Can - SMD; Impedance: -
footprint CAP ALUM 8.3MM
pins: 1, 2

## PVH-20V390MG70E-R2
designator C?, comment 39uF
CAP POLYMER 39UF 20% 20V SMD; Part Number: PVH-20V390MG70E-R2; Manufacturer: Elna America; TemperatureRange: -55C ~ 105C; Ripple Current: 2A; Lifetime @ Temp: 2000 Hrs @ 105C; Value: 39uF; PartId: 7599; Supplier 1: Digi-Key; Supplier Part Number 1: 604-1184-2-ND; ComponentLink1Description: Datasheet; ComponentLink1URL: http://www.elna.co.jp/en/capacitor/alumi/catalog/pdf/pvh_e.pdf; ComponentLink2Description: Digi-Key listing; ComponentLink2URL: http://digikey.com/product-detail/en/PVH-20V390MG70E-R2/604-1184-2-ND/3283862; Tolerance: 20%; Voltage: 20V; Price: 0.9766; Type: -; Device Package: Radial, Can - SMD; Impedance: -
footprint CAP ALUM 8.3MM
pins: 1, 2

## PVH-25V390MH80E-R2
designator C?, comment 39uF
CAP POLYMER 39UF 20% 25V SMD; Part Number: PVH-25V390MH80E-R2; Manufacturer: Elna America; TemperatureRange: -55C ~ 105C; Ripple Current: 2.1A; Lifetime @ Temp: 2000 Hrs @ 105C; Value: 39uF; PartId: 7695; Supplier 1: Digi-Key; Supplier Part Number 1: 604-1189-2-ND; ComponentLink1Description: Datasheet; ComponentLink1URL: http://www.elna.co.jp/en/capacitor/alumi/catalog/pdf/pvh_e.pdf; ComponentLink2Description: Digi-Key listing; ComponentLink2URL: http://digikey.com/product-detail/en/PVH-25V390MH80E-R2/604-1189-2-ND/3283872; Tolerance: 20%; Voltage: 25V; Price: 1.2815; Type: -; Device Package: Radial, Can - SMD; Impedance: -
footprint CAP ALUM 10.3MM
pins: 1, 2

## PVH-35V220MH80E-R2
designator C?, comment 22uF
CAP POLYMER 22UF 20% 35V SMD; Part Number: PVH-35V220MH80E-R2; Manufacturer: Elna America; TemperatureRange: -55C ~ 105C; Ripple Current: 1A; Lifetime @ Temp: 2000 Hrs @ 105C; Value: 22uF; PartId: 7708; Supplier 1: Digi-Key; Supplier Part Number 1: 604-1191-2-ND; ComponentLink1Description: Datasheet; ComponentLink1URL: http://www.elna.co.jp/en/capacitor/alumi/catalog/pdf/pvh_e.pdf; ComponentLink2Description: Digi-Key listing; ComponentLink2URL: http://digikey.com/product-detail/en/PVH-35V220MH80E-R2/604-1191-2-ND/3283876; Tolerance: 20%; Voltage: 35V; Price: 1.5073; Type: -; Device Package: Radial, Can - SMD; Impedance: -
footprint CAP ALUM 10.3MM
pins: 1, 2

## RHS1V101MCN1GS
designator C?, comment 100uF
CAP POLYMER 100UF 20% 35V SMD; Part Number: RHS1V101MCN1GS; Manufacturer: Nichicon; TemperatureRange: -55C ~ 105C; Ripple Current: 3A; Lifetime @ Temp: 2000 Hrs @ 105C; Value: 100uF; PartId: 7639; Supplier 1: Digi-Key; Supplier Part Number 1: 493-6628-2-ND; ComponentLink1Description: Datasheet; ComponentLink1URL: http://nichicon-us.com/english/products/pdfs/e-hs_ha.pdf; ComponentLink2Description: Digi-Key listing; ComponentLink2URL: http://digikey.com/product-detail/en/RHS1V101MCN1GS/493-6628-2-ND/3465976; Tolerance: 20%; Voltage: 35V; Price: 1.6835; Type: -; Device Package: Radial, Can - SMD; Impedance: -
footprint CAP ALUM 8.3MM
pins: 1, 2

## RPA1A331MCN1GS
designator C?, comment 330uF
CAP POLYMER 330UF 20% 10V SMD; Part Number: RPA1A331MCN1GS; Manufacturer: Nichicon; TemperatureRange: -55C ~ 105C; Ripple Current: 3.6A; Lifetime @ Temp: 2000 Hrs @ 105C; Value: 330uF; PartId: 7661; Supplier 1: Digi-Key; Supplier Part Number 1: 493-6643-2-ND; ComponentLink1Description: Datasheet; ComponentLink1URL: http://www.nichicon-us.com/english/products/pdf/2013fpcap_catalog_pspa.pdf; ComponentLink2Description: Digi-Key listing; ComponentLink2URL: http://digikey.com/product-detail/en/RPA1A331MCN1GS/493-6643-2-ND/3465931; Tolerance: 20%; Voltage: 10V; Price: 0.7669; Type: -; Device Package: Radial, Can - SMD; Impedance: -
footprint CAP ALUM 10.3MM
pins: 1, 2

## RPS1A121MCN1GS
designator C?, comment 120uF
CAP POLYMER 120UF 20% 10V SMD; Part Number: RPS1A121MCN1GS; Manufacturer: Nichicon; TemperatureRange: -55C ~ 105C; Ripple Current: 2.6A; Lifetime @ Temp: 2000 Hrs @ 105C; Value: 120uF; PartId: 7558; Supplier 1: Digi-Key; Supplier Part Number 1: 493-3844-2-ND; ComponentLink1Description: Datasheet; ComponentLink1URL: http://www.nichicon-us.com/english/products/pdf/2013fpcap_catalog_pspa.pdf; ComponentLink2Description: Digi-Key listing; ComponentLink2URL: http://digikey.com/product-detail/en/RPS1A121MCN1GS/493-3844-2-ND/2242481; Tolerance: 20%; Voltage: 10V; Price: 0.3874; Type: -; Device Package: Radial, Can - SMD; Impedance: -
footprint CAP ALUM 8.3MM
pins: 1, 2

## RPS1A331MCN1GS
designator C?, comment 330uF
CAP POLYMER 330UF 20% 10V SMD; Part Number: RPS1A331MCN1GS; Manufacturer: Nichicon; TemperatureRange: -55C ~ 105C; Ripple Current: 4A; Lifetime @ Temp: 2000 Hrs @ 105C; Value: 330uF; PartId: 7561; Supplier 1: Digi-Key; Supplier Part Number 1: 493-3846-2-ND; ComponentLink1Description: Datasheet; ComponentLink1URL: http://www.nichicon-us.com/english/products/pdf/2013fpcap_catalog_pspa.pdf; ComponentLink2Description: Digi-Key listing; ComponentLink2URL: http://digikey.com/product-detail/en/RPS1A331MCN1GS/493-3846-2-ND/2242483; Tolerance: 20%; Voltage: 10V; Price: 0.5719; Type: -; Device Package: Radial, Can - SMD; Impedance: -
footprint CAP ALUM 8.3MM
pins: 1, 2

## RPS1A561MCN1GS
designator C?, comment 560uF
CAP POLYMER 560UF 20% 10V SMD; Part Number: RPS1A561MCN1GS; Manufacturer: Nichicon; TemperatureRange: -55C ~ 105C; Ripple Current: 5.3A; Lifetime @ Temp: 2000 Hrs @ 105C; Value: 560uF; PartId: 7663; Supplier 1: Digi-Key; Supplier Part Number 1: 493-3847-2-ND; ComponentLink1Description: Datasheet; ComponentLink1URL: http://www.nichicon-us.com/english/products/pdf/2013fpcap_catalog_pspa.pdf; ComponentLink2Description: Digi-Key listing; ComponentLink2URL: http://digikey.com/product-detail/en/RPS1A561MCN1GS/493-3847-2-ND/2242484; Tolerance: 20%; Voltage: 10V; Price: 0.8081; Type: -; Device Package: Radial, Can - SMD; Impedance: -
footprint CAP ALUM 10.3MM
pins: 1, 2

## RPS1C101MCN1GS
designator C?, comment 100uF
CAP POLYMER 100UF 20% 16V SMD; Part Number: RPS1C101MCN1GS; Manufacturer: Nichicon; TemperatureRange: -55C ~ 105C; Ripple Current: 3.2A; Lifetime @ Temp: 2000 Hrs @ 105C; Value: 100uF; PartId: 7655; Supplier 1: Digi-Key; Supplier Part Number 1: 493-3852-2-ND; ComponentLink1Description: Datasheet; ComponentLink1URL: http://www.nichicon-us.com/english/products/pdf/2013fpcap_catalog_pspa.pdf; ComponentLink2Description: Digi-Key listing; ComponentLink2URL: http://digikey.com/product-detail/en/RPS1C101MCN1GS/493-3852-2-ND/2242489; Tolerance: 20%; Voltage: 16V; Price: 0.6135; Type: -; Device Package: Radial, Can - SMD; Impedance: -
footprint CAP ALUM 10.3MM
pins: 1, 2

## RPS1C151MCN1GS
designator C?, comment 150uF
CAP POLYMER 150UF 20% 16V SMD; Part Number: RPS1C151MCN1GS; Manufacturer: Nichicon; TemperatureRange: -55C ~ 105C; Ripple Current: 3.2A; Lifetime @ Temp: 2000 Hrs @ 105C; Value: 150uF; PartId: 7656; Supplier 1: Digi-Key; Supplier Part Number 1: 493-3853-2-ND; ComponentLink1Description: Datasheet; ComponentLink1URL: http://www.nichicon-us.com/english/products/pdf/2013fpcap_catalog_pspa.pdf; ComponentLink2Description: Digi-Key listing; ComponentLink2URL: http://digikey.com/product-detail/en/RPS1C151MCN1GS/493-3853-2-ND/2242490; Tolerance: 20%; Voltage: 16V; Price: 0.6508; Type: -; Device Package: Radial, Can - SMD; Impedance: -
footprint CAP ALUM 10.3MM
pins: 1, 2

## RPS1C181MCN1GS
designator C?, comment 180uF
CAP POLYMER 180UF 20% 16V SMD; Part Number: RPS1C181MCN1GS; Manufacturer: Nichicon; TemperatureRange: -55C ~ 105C; Ripple Current: 3.7A; Lifetime @ Temp: 2000 Hrs @ 105C; Value: 180uF; PartId: 7576; Supplier 1: Digi-Key; Supplier Part Number 1: 493-3854-2-ND; ComponentLink1Description: Datasheet; ComponentLink1URL: http://www.nichicon-us.com/english/products/pdf/2013fpcap_catalog_pspa.pdf; ComponentLink2Description: Digi-Key listing; ComponentLink2URL: http://digikey.com/product-detail/en/RPS1C181MCN1GS/493-3854-2-ND/2242491; Tolerance: 20%; Voltage: 16V; Price: 0.783; Type: -; Device Package: Radial, Can - SMD; Impedance: -
footprint CAP ALUM 8.3MM
pins: 1, 2

## RPS1C221MCN1GS
designator C?, comment 220uF
CAP POLYMER 220UF 20% 16V SMD; Part Number: RPS1C221MCN1GS; Manufacturer: Nichicon; TemperatureRange: -55C ~ 105C; Ripple Current: 3.7A; Lifetime @ Temp: 2000 Hrs @ 105C; Value: 220uF; PartId: 7582; Supplier 1: Digi-Key; Supplier Part Number 1: 493-3855-2-ND; ComponentLink1Description: Datasheet; ComponentLink1URL: http://www.nichicon-us.com/english/products/pdf/2013fpcap_catalog_pspa.pdf; ComponentLink2Description: Digi-Key listing; ComponentLink2URL: http://digikey.com/product-detail/en/RPS1C221MCN1GS/493-3855-2-ND/2242492; Tolerance: 20%; Voltage: 16V; Price: 0.8493; Type: -; Device Package: Radial, Can - SMD; Impedance: -
footprint CAP ALUM 8.3MM
pins: 1, 2

## RPS1C560MCN1GS
designator C?, comment 56uF
CAP POLYMER 56UF 20% 16V SMD; Part Number: RPS1C560MCN1GS; Manufacturer: Nichicon; TemperatureRange: -55C ~ 105C; Ripple Current: 2.3A; Lifetime @ Temp: 2000 Hrs @ 105C; Value: 56uF; PartId: 7559; Supplier 1: Digi-Key; Supplier Part Number 1: 493-3850-2-ND; ComponentLink1Description: Datasheet; ComponentLink1URL: http://www.nichicon-us.com/english/products/pdf/2013fpcap_catalog_pspa.pdf; ComponentLink2Description: Digi-Key listing; ComponentLink2URL: http://digikey.com/product-detail/en/RPS1C560MCN1GS/493-3850-2-ND/2242487; Tolerance: 20%; Voltage: 16V; Price: 0.4984; Type: -; Device Package: Radial, Can - SMD; Impedance: -
footprint CAP ALUM 8.3MM
pins: 1, 2

## RPS1C820MCN1GS
designator C?, comment 82uF
CAP POLYMER 82UF 20% 16V SMD; Part Number: RPS1C820MCN1GS; Manufacturer: Nichicon; TemperatureRange: -55C ~ 105C; Ripple Current: 2.3A; Lifetime @ Temp: 2000 Hrs @ 105C; Value: 82uF; PartId: 7560; Supplier 1: Digi-Key; Supplier Part Number 1: 493-3851-2-ND; ComponentLink1Description: Datasheet; ComponentLink1URL: http://www.nichicon-us.com/english/products/pdf/2013fpcap_catalog_pspa.pdf; ComponentLink2Description: Digi-Key listing; ComponentLink2URL: http://digikey.com/product-detail/en/RPS1C820MCN1GS/493-3851-2-ND/2242488; Tolerance: 20%; Voltage: 16V; Price: 0.5087; Type: -; Device Package: Radial, Can - SMD; Impedance: -
footprint CAP ALUM 8.3MM
pins: 1, 2

## RPS1H330MCN1GS
designator C?, comment 33uF
CAP POLYMER 33UF 20% 50V SMD; Part Number: RPS1H330MCN1GS; Manufacturer: Nichicon; TemperatureRange: -55C ~ 105C; Ripple Current: 1.95A; Lifetime @ Temp: 2000 Hrs @ 105C; Value: 33uF; PartId: 7712; Supplier 1: Digi-Key; Supplier Part Number 1: 493-6649-2-ND; ComponentLink1Description: Datasheet; ComponentLink1URL: http://www.nichicon-us.com/english/products/pdf/2013fpcap_catalog_pspa.pdf; ComponentLink2Description: Digi-Key listing; ComponentLink2URL: http://digikey.com/product-detail/en/RPS1H330MCN1GS/493-6649-2-ND/3465951; Tolerance: 20%; Voltage: 50V; Price: 1.5328; Type: -; Device Package: Radial, Can - SMD; Impedance: -
footprint CAP ALUM 10.3MM
pins: 1, 2

## RPS1H470MCN1GS
designator C?, comment 47uF
CAP POLYMER 47UF 20% 50V SMD; Part Number: RPS1H470MCN1GS; Manufacturer: Nichicon; TemperatureRange: -55C ~ 105C; Ripple Current: 2.3A; Lifetime @ Temp: 2000 Hrs @ 105C; Value: 47uF; PartId: 7644; Supplier 1: Digi-Key; Supplier Part Number 1: 493-6650-2-ND; ComponentLink1Description: Datasheet; ComponentLink1URL: http://www.nichicon-us.com/english/products/pdf/2013fpcap_catalog_pspa.pdf; ComponentLink2Description: Digi-Key listing; ComponentLink2URL: http://digikey.com/product-detail/en/RPS1H470MCN1GS/493-6650-2-ND/3465957; Tolerance: 20%; Voltage: 50V; Price: 1.8993; Type: -; Device Package: Radial, Can - SMD; Impedance: -
footprint CAP ALUM 8.3MM
pins: 1, 2

## RPS1H820MCN1GS
designator C?, comment 82uF
CAP POLYMER 82UF 20% 50V SMD; Part Number: RPS1H820MCN1GS; Manufacturer: Nichicon; TemperatureRange: -55C ~ 105C; Ripple Current: 2.8A; Lifetime @ Temp: 2000 Hrs @ 105C; Value: 82uF; PartId: 7751; Supplier 1: Digi-Key; Supplier Part Number 1: 493-6651-2-ND; ComponentLink1Description: Datasheet; ComponentLink1URL: http://www.nichicon-us.com/english/products/pdf/2013fpcap_catalog_pspa.pdf; ComponentLink2Description: Digi-Key listing; ComponentLink2URL: http://digikey.com/product-detail/en/RPS1H820MCN1GS/493-6651-2-ND/3465960; Tolerance: 20%; Voltage: 50V; Price: 2.9983; Type: -; Device Package: Radial, Can - SMD; Impedance: -
footprint CAP ALUM 10.3MM
pins: 1, 2

## RPS1J330MCN1GS
designator C?, comment 33uF
CAP POLYMER 33UF 20% 63V SMD; Part Number: RPS1J330MCN1GS; Manufacturer: Nichicon; TemperatureRange: -55C ~ 105C; Ripple Current: 2.25A; Lifetime @ Temp: 2000 Hrs @ 105C; Value: 33uF; PartId: 7645; Supplier 1: Digi-Key; Supplier Part Number 1: 493-6654-2-ND; ComponentLink1Description: Datasheet; ComponentLink1URL: http://www.nichicon-us.com/english/products/pdf/2013fpcap_catalog_pspa.pdf; ComponentLink2Description: Digi-Key listing; ComponentLink2URL: http://digikey.com/product-detail/en/RPS1J330MCN1GS/493-6654-2-ND/3465973; Tolerance: 20%; Voltage: 63V; Price: 2.0955; Type: -; Device Package: Radial, Can - SMD; Impedance: -
footprint CAP ALUM 8.3MM
pins: 1, 2